# Altium footprint library SMDcap.PcbLib: 1 footprints
Each footprint in its own frame and in the unit in brackets; x right, y up, seen from the top. Pads: shape width x height; smd on the part's side, far side on the other; paste and mask are expansions set on the pad; w line width, h text height; cw(c..) or ccw(c..) is an arc to the next point about the centre after c.
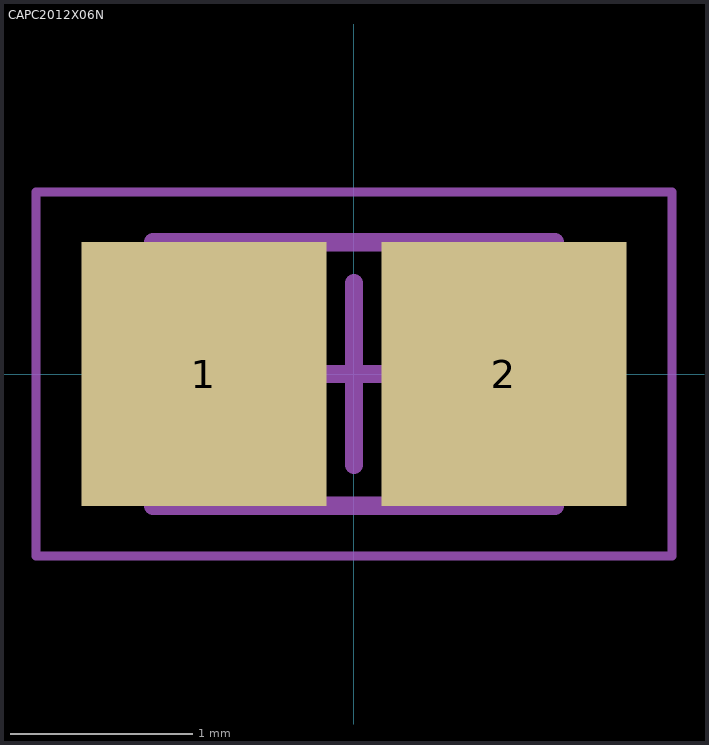
[diagram p0: the footprint, top view; thin cyan lines are the x and y axes]

## CAPC2012X06N [mm] "Chip Capacitor, 2-Leads, Body 2.01x1.25mm, IPC Medium Density"
height 0.6
pads (2):
  rect 1.35x1.45 smd: 1(-0.825,0) 2(0.825,0)
Mechanical 13:
  lines w0.1: -1.105,-0.725 -1.105,0.725 1.105,0.725 1.105,-0.725 -1.105,-0.725
Mechanical 15:
  lines w0.05: -1.75,-1 -1.75,1 1.75,1 1.75,-1 -1.75,-1
  lines w0.1: -0.5,0 0.5,0 ; 0,-0.5 0,0.5
3D body: height 0.6, standoff 0, extent -0.605,-0.725 0.605,0.725
3D body: height 0.6, standoff 0, extent -1.105,-0.725 -0.605,0.725
3D body: height 0.6, standoff 0, extent 0.605,-0.725 1.105,0.725